# Altium footprint library 0805_RES-CAP.PcbLib: 6 footprints
Each footprint in its own frame and in the unit in brackets; x right, y up, seen from the top. Pads: shape width x height; smd on the part's side, far side on the other; paste and mask are expansions set on the pad; w line width, h text height; cw(c..) or ccw(c..) is an arc to the next point about the centre after c.
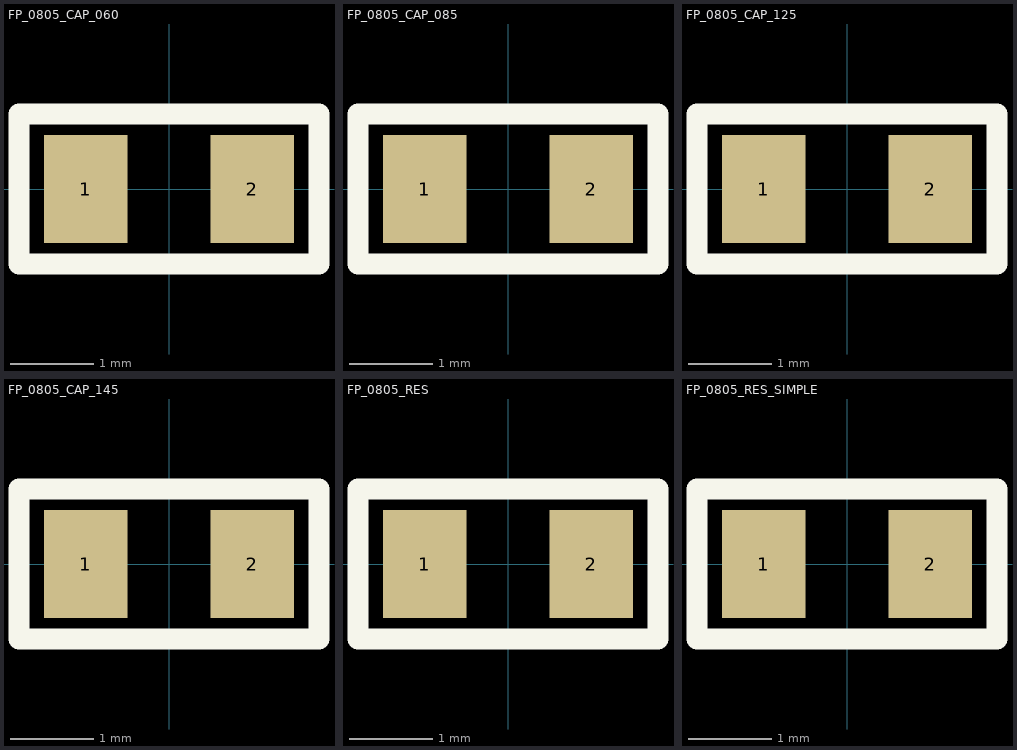
[diagram p0: the footprints below, top view; thin cyan lines are the x and y axes]

## FP_0805_CAP_060 [mm] "0805 kapacitás YAGEO 0.6 mm magas"
height 0.61
pads (2):
  rect 1x1.3 smd: 1(-1,0) 2(1,0)
Top Overlay:
  lines w0.254: -1.8,-0.9 1.8,-0.9 1.8,0.9 -1.8,0.9 -1.8,-0.9
3D body: height 0.6, standoff 0, extent -1,-0.635 -0.644,0.635
3D body: height 0.6, standoff 0, extent 0.676,-0.635 1.032,0.635
3D body: height 0.6, standoff 0, extent -0.644,-0.635 0.676,0.635

## FP_0805_CAP_085 [mm] "0805 kapacitás YAGEO 0.85mm magas"
height 0.86
pads (2):
  rect 1x1.3 smd: 1(-1,0) 2(1,0)
Top Overlay:
  lines w0.254: -1.8,-0.9 -1.8,0.9 1.8,0.9 1.8,-0.9 -1.8,-0.9
3D body: height 0.85, standoff 0, extent -0.644,-0.635 0.676,0.635
3D body: height 0.85, standoff 0, extent 0.676,-0.635 1.032,0.635
3D body: height 0.85, standoff 0, extent -1,-0.635 -0.644,0.635

## FP_0805_CAP_125 [mm] "0805 kapacitás YAGEO/NIC 1.25 mm magas"
height 1.27
pads (2):
  rect 1x1.3 smd: 1(-1,0) 2(1,0)
Top Overlay:
  lines w0.254: -1.8,-0.9 1.8,-0.9 1.8,0.9 -1.8,0.9 -1.8,-0.9
3D body: height 1.25, standoff 0, extent -1,-0.635 -0.644,0.635
3D body: height 1.25, standoff 0, extent 0.676,-0.635 1.032,0.635
3D body: height 1.25, standoff 0, extent -0.644,-0.635 0.676,0.635

## FP_0805_CAP_145 [mm] "0805 kapacitás NIC 1.45 mm magas"
height 1.45
pads (2):
  rect 1x1.3 smd: 1(-1,0) 2(1,0)
Top Overlay:
  lines w0.254: -1.8,-0.9 -1.8,0.9 1.8,0.9 1.8,-0.9 -1.8,-0.9
3D body: height 1.45, standoff 0, extent -0.644,-0.635 0.676,0.635
3D body: height 1.45, standoff 0, extent 0.676,-0.635 1.032,0.635
3D body: height 1.45, standoff 0, extent -1,-0.635 -0.644,0.635

## FP_0805_RES [mm] "0805 ellenállás"
height 0.5
pads (2):
  rect 1x1.3 smd: 1(-1,0) 2(1,0)
Top Overlay:
  lines w0.254: -1.8,-0.9 1.8,-0.9 1.8,0.9 -1.8,0.9 -1.8,-0.9
3D body: height 0.62, standoff 0.02, extent -1,-0.625 1,0.625

## FP_0805_RES_SIMPLE [mm] "0805 ellenállás, amit én csináltam"
height 0.5
pads (2):
  rect 1x1.3 smd: 1(-1,0) 2(1,0)
Top Overlay:
  lines w0.254: -1.8,-0.9 1.8,-0.9 1.8,0.9 -1.8,0.9 -1.8,-0.9
3D body: height 0.5, standoff 0, extent -1,-0.635 -0.644,0.635
3D body: height 0.5, standoff 0, extent 0.676,-0.635 1.032,0.635
3D body: height 0.5, standoff 0, extent -0.644,-0.635 0.676,0.635